# Altium schematic symbol library IC_MASWSS0179.SchLib: 1 symbol
Pins are listed as number, name and electrical type; pins without a type are passive.

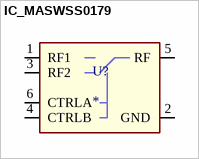
[diagram p0: symbol IC_MASWSS0179]

## IC_MASWSS0179
designator U?
pins: 1 RF1, 2 GND, 3 RF2, 4 CTRLB, 5 RF, 6 CTRLA